# Altium schematic symbol library RV6LAYSA502A.SchLib: 1 symbol
Pins are listed as number, name and electrical type; pins without a type are passive.

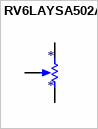
[diagram p0: symbol RV6LAYSA502A]

## RV6LAYSA502A
designator *
pins: 1 TOP, 2 TAP, 3 BOT